# Altium footprint library microbit.PcbLib: 18 footprints (part 1 of 2)
Each footprint in its own frame and in the unit in brackets; x right, y up, seen from the top. Pads: shape width x height; smd on the part's side, far side on the other; paste and mask are expansions set on the pad; w line width, h text height; cw(c..) or ccw(c..) is an arc to the next point about the centre after c.
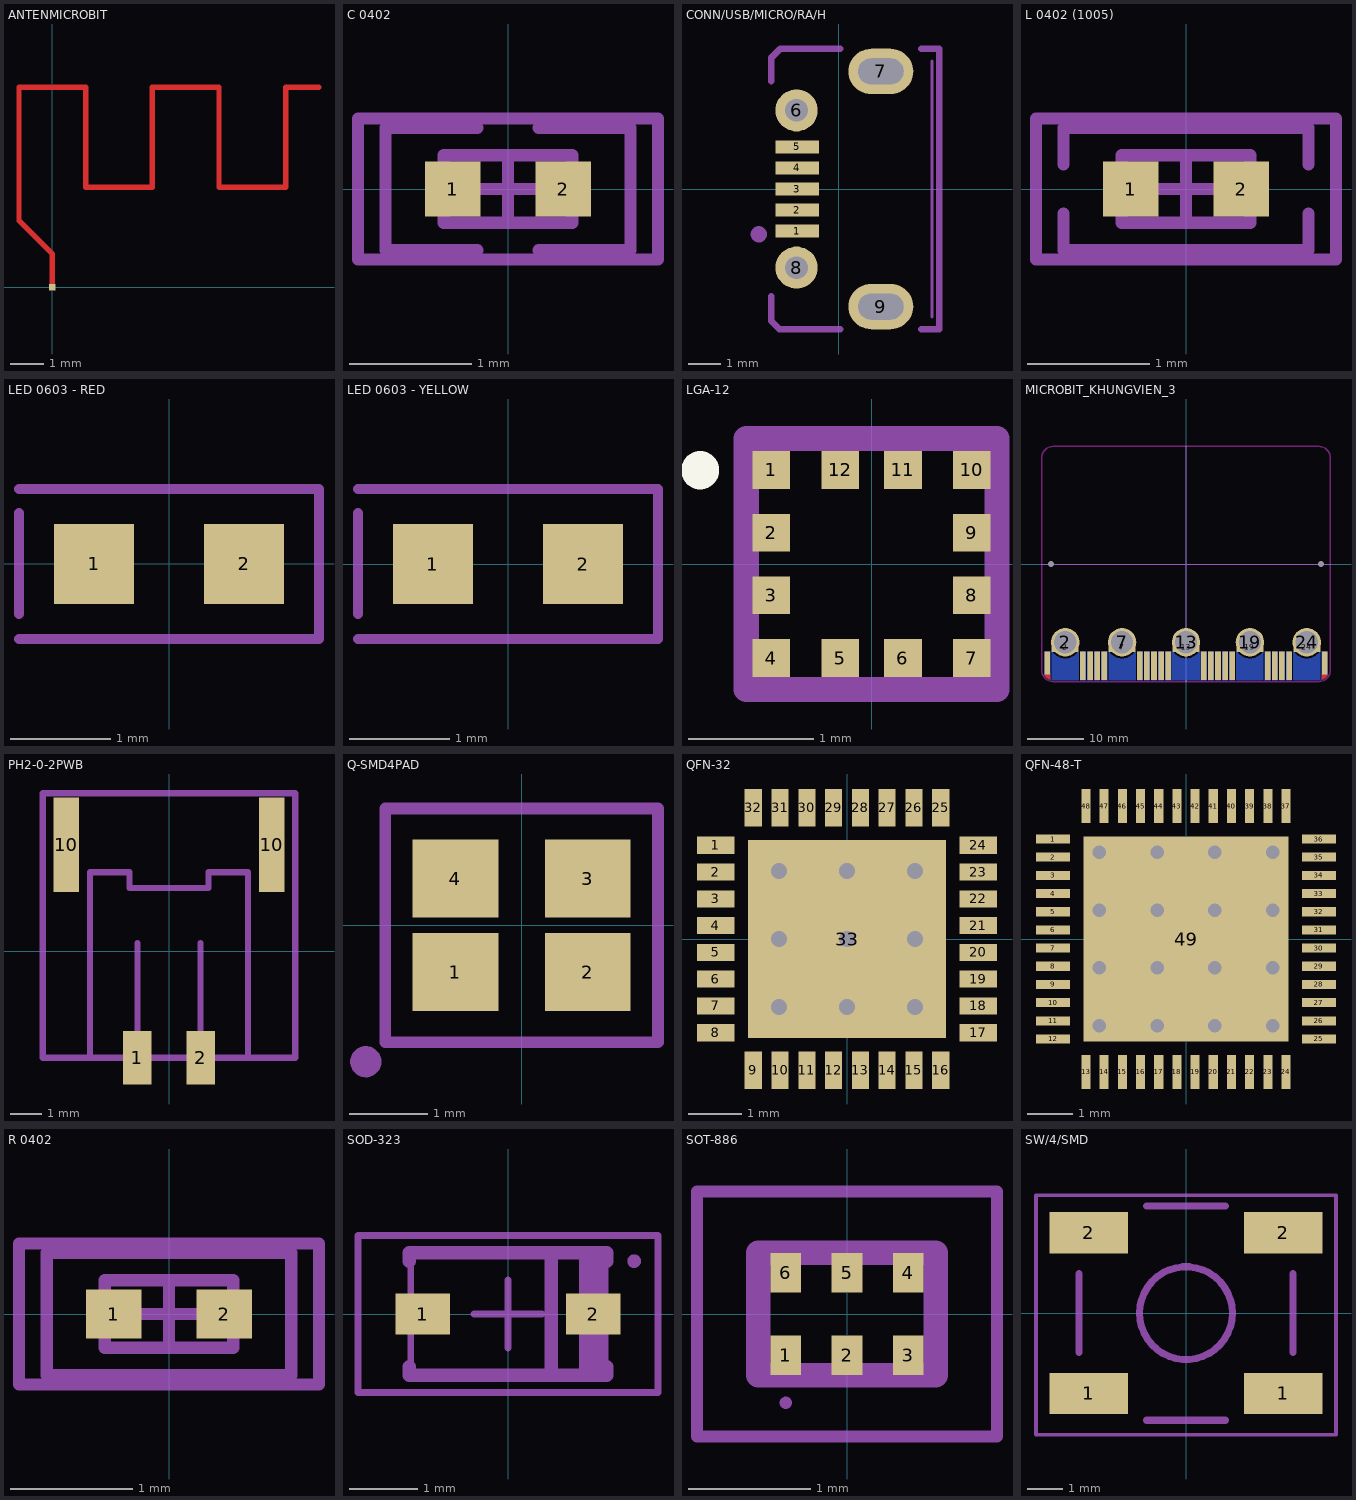
[diagram p0: the footprints below, top view; thin cyan lines are the x and y axes]

## ANTENMICROBIT [mm]
pads (1):
  rect 0.2x0.2 smd: 1(0,0)
Top Layer:
  lines w0.16: 0,0 0,1 -1,2 -1,6 1,6 1,3 3,3 3,6 5,6 5,3 7,3 7,6 8,6

## C 0402 [mm]
pads (2):
  rect 0.452x0.45 smd: 1(-0.451,0) 2(0.451,0)
Mechanical 13:
  lines w0.1: -0.525,-0.275 0.525,-0.275 0.525,0.275 -0.525,0.275 -0.525,-0.275
Mechanical 15:
  lines w0.1: -0.275,0 0.275,0 ; 0,-0.275 0,0.275 ; -1.225,-0.575 1.225,-0.575 1.225,0.575 -1.225,0.575 -1.225,-0.575
Mechanical 16:
  lines w0.1: -0.25,-0.5 -1,-0.5 -1,0.5 -0.25,0.5 ; 0.25,-0.5 1,-0.5 1,0.5 0.25,0.5
3D body "User Library-Chip Resistor2 (1).step": height 0.4, standoff 0, extent -0.5,-0.25 0.5,0.25

## CONN/USB/MICRO/RA/H [mm]
pads (9):
  rect 1.35x0.4 smd: 1(-1.275,-1.3) 2(-1.275,-0.65) 3(-1.275,0) 4(-1.275,0.65) 5(-1.275,1.3)
  round 1.3 hole 0.7: 6(-1.3,2.425) 8(-1.3,-2.425)
  oval 2x1.4 hole 0.8 slot 1.4 at 0 deg: 7(1.3,3.625) 9(1.3,-3.625)
Mechanical 1:
  lines w0.1: 2.875,-3.95 2.875,3.95
  text "PCB Edge" at 3.25,-3.937 h0.25
Mechanical 16:
  circle w0.25: c-2.463,-1.397 r0.125
  lines w0.2: -2.084,-3.3 -2.084,-4.066 -1.832,-4.318 0.05,-4.318 ; -2.084,3.325 -2.084,4.041 -1.807,4.318 0.05,4.318 ; 2.546,-4.318 3.1,-4.318 3.1,4.318 2.546,4.318
3D body "User Library-Micro USB.step": height 2.74, standoff -0.2, extent -1.55,-3.99 3.88,3.99

## L 0402 (1005) [mm]
pads (2):
  rect 0.452x0.45 smd: 1(-0.451,0) 2(0.451,0)
Mechanical 13:
  lines w0.1: -0.525,-0.275 0.525,-0.275 0.525,0.275 -0.525,0.275 -0.525,-0.275
Mechanical 15:
  lines w0.1: -0.275,0 0.275,0 ; 0,-0.275 0,0.275 ; -1.225,-0.575 1.225,-0.575 1.225,0.575 -1.225,0.575 -1.225,-0.575
Mechanical 16:
  lines w0.1: -1,-0.2 -1,-0.5 1,-0.5 1,-0.2 ; -1,0.2 -1,0.5 1,0.5 1,0.2
3D body "User Library-Chip Inductor-L0402 (1005).step": height 0.5, standoff 0, extent -0.5,-0.3 0.5,0.3

## LED 0603 - RED [mm]
pads (2):
  rect 0.8x0.8 smd: 1(-0.75,0) 2(0.75,0)
Mechanical 16:
  lines w0.1: -1.5,-0.75 1.5,-0.75 1.5,0.75 -1.5,0.75 ; -1.5,-0.5 -1.5,0.512
3D body "User Library-led_0603-red.step": height 0.6, standoff 0, extent -0.81,-0.4 0.81,0.4

## LED 0603 - YELLOW [mm]
pads (2):
  rect 0.8x0.8 smd: 1(-0.75,0) 2(0.75,0)
Mechanical 16:
  lines w0.1: -1.5,-0.75 1.5,-0.75 1.5,0.75 -1.5,0.75 ; -1.5,-0.5 -1.5,0.512
3D body "User Library-led_0603-yellow.step": height 0.6, standoff 0, extent -0.81,-0.4 0.81,0.4

## LGA-12 [mm]
pads (12):
  rect 0.3x0.3 smd: 1(-0.8,0.75) 2(-0.8,0.25) 3(-0.8,-0.25) 4(-0.8,-0.75) 5(-0.25,-0.75) 6(0.25,-0.75) 7(0.8,-0.75) 8(0.8,-0.25) 9(0.8,0.25) 10(0.8,0.75) 11(0.25,0.75) 12(-0.25,0.75)
Top Overlay:
  circle w0.254: c-1.368,0.748 r0.025
Mechanical 13:
  lines w0.2: -1,-1 -1,1 1,1 1,-1 -1,-1
3D body "User Library-lga-2x2x0_9.step": height 0.95, standoff 0, extent -1,-1 1,1

## MICROBIT_KHUNGVIEN_3 [mm]
pads (52):
  rect 1x4.08 smd: 1(-24.765,-17.706) 25(24.765,-17.706)
  rect 4.81x1.746 smd: 2(-21.59,-14.873) 7(-11.43,-14.873) 13(0,-14.873) 19(11.43,-14.873) 24(21.59,-14.873)
  round 5.08 hole 4: 2(-21.59,-14) 7(-11.43,-14) 13(0,-14) 19(11.43,-14) 24(21.59,-14)
  rect 1x5.08 smd: 3(-18.415,-18.206) 4(-17.145,-18.206) 5(-15.875,-18.206) 6(-14.605,-18.206) 8(-8.255,-18.206) 9(-6.985,-18.206) 10(-5.715,-18.206) 11(-4.445,-18.206) 12(-3.175,-18.206) 14(3.175,-18.206) 15(4.445,-18.206) 16(5.715,-18.206) 17(6.985,-18.206) 18(8.255,-18.206) 20(14.605,-18.206) 21(15.875,-18.206) 22(17.145,-18.206) 23(18.415,-18.206)
  rect 1x4.08 smd far side: NC(-24.765,-17.706) NC(24.765,-17.706)
  rect 0x0 hole 1 unplated: NC(-24.13,0) NC(24.13,0)
  rect 1x5.08 smd far side: NC(-18.415,-18.206) NC(-17.145,-18.206) NC(-15.875,-18.206) NC(-14.605,-18.206) NC(-8.255,-18.206) NC(-6.985,-18.206) NC(-5.715,-18.206) NC(-4.445,-18.206) NC(-3.175,-18.206) NC(3.175,-18.206) NC(4.445,-18.206) NC(5.715,-18.206) NC(6.985,-18.206) NC(8.255,-18.206) NC(14.605,-18.206) NC(15.875,-18.206) NC(17.145,-18.206) NC(18.415,-18.206)
Top Layer:
  region: 24.265,-20.679 24.525,-20.575 24.75,-20.45 24.975,-20.275 25.15,-20.1 25.265,-19.962 25.265,-19.625 24.265,-19.625
  region: -24.265,-20.679 -24.525,-20.575 -24.75,-20.45 -24.975,-20.275 -25.15,-20.1 -25.265,-19.962 -25.265,-19.625 -24.265,-19.625
  text "GND" at 19.185,-20.746 h2.4
  text "3V" at 9.025,-20.746 h2.4
  text "2" at -2.405,-20.746 h2.4
  text "1" at -13.835,-20.746 h2.4
  text "0" at -23.995,-20.746 h2.4
Bottom Layer:
  region: 24.265,-20.679 24.525,-20.575 24.75,-20.45 24.975,-20.275 25.15,-20.1 25.265,-19.962 25.265,-19.625 24.265,-19.625
  region: -24.265,-20.679 -24.525,-20.575 -24.75,-20.45 -24.975,-20.275 -25.15,-20.1 -25.265,-19.962 -25.265,-19.625 -24.265,-19.625
  region: 19.177,-15.666 19.355,-15.909 19.558,-16.123 19.736,-16.276 19.832,-16.354 20.037,-16.496 20.254,-16.617 20.482,-16.717 20.599,-16.758 20.655,-16.779 20.768,-16.816 20.882,-16.848 20.998,-16.874 21.057,-16.885 21.111,-16.896 21.221,-16.914 21.332,-16.927 21.443,-16.934 21.499,-16.936 21.681,-16.936 21.812,-16.931 22.072,-16.901 22.327,-16.846 22.577,-16.766 22.698,-16.717 22.825,-16.663 23.071,-16.537 23.304,-16.388 23.52,-16.217 23.622,-16.123 23.853,-15.871 24.003,-15.666 24.003,-20.746 19.177,-20.746
  region: 9.017,-15.666 9.195,-15.909 9.398,-16.123 9.576,-16.276 9.672,-16.354 9.877,-16.496 10.094,-16.617 10.322,-16.717 10.439,-16.758 10.495,-16.779 10.608,-16.816 10.722,-16.848 10.838,-16.874 10.897,-16.885 10.951,-16.896 11.061,-16.914 11.172,-16.927 11.283,-16.934 11.339,-16.936 11.521,-16.936 11.652,-16.931 11.912,-16.901 12.167,-16.846 12.417,-16.766 12.538,-16.717 12.665,-16.663 12.911,-16.537 13.144,-16.388 13.36,-16.217 13.462,-16.123 13.693,-15.871 13.843,-15.666 13.843,-20.746 9.017,-20.746
  region: -2.413,-15.666 -2.235,-15.909 -2.032,-16.123 -1.854,-16.276 -1.758,-16.354 -1.553,-16.496 -1.336,-16.617 -1.108,-16.717 -0.991,-16.758 -0.935,-16.779 -0.822,-16.816 -0.708,-16.848 -0.592,-16.874 -0.533,-16.885 -0.479,-16.896 -0.369,-16.914 -0.258,-16.927 -0.147,-16.934 -0.091,-16.936 0.091,-16.936 0.222,-16.931 0.482,-16.901 0.737,-16.846 0.987,-16.766 1.108,-16.717 1.235,-16.663 1.481,-16.537 1.714,-16.388 1.93,-16.217 2.032,-16.123 2.263,-15.871 2.413,-15.666 2.413,-20.746 -2.413,-20.746
  region: -13.843,-15.666 -13.665,-15.909 -13.462,-16.123 -13.284,-16.276 -13.188,-16.354 -12.983,-16.496 -12.766,-16.617 -12.538,-16.717 -12.421,-16.758 -12.365,-16.779 -12.252,-16.816 -12.138,-16.848 -12.022,-16.874 -11.963,-16.885 -11.909,-16.896 -11.799,-16.914 -11.688,-16.927 -11.577,-16.934 -11.521,-16.936 -11.339,-16.936 -11.208,-16.931 -10.948,-16.901 -10.693,-16.846 -10.443,-16.766 -10.322,-16.717 -10.195,-16.663 -9.949,-16.537 -9.716,-16.388 -9.5,-16.217 -9.398,-16.123 -9.167,-15.871 -9.017,-15.666 -9.017,-20.746 -13.843,-20.746
  region: -24.003,-15.666 -23.825,-15.909 -23.622,-16.123 -23.444,-16.276 -23.348,-16.354 -23.143,-16.496 -22.926,-16.617 -22.698,-16.717 -22.581,-16.758 -22.525,-16.779 -22.412,-16.816 -22.298,-16.848 -22.182,-16.874 -22.123,-16.885 -22.069,-16.896 -21.959,-16.914 -21.848,-16.927 -21.737,-16.934 -21.681,-16.936 -21.499,-16.936 -21.368,-16.931 -21.108,-16.901 -20.853,-16.846 -20.603,-16.766 -20.482,-16.717 -20.355,-16.663 -20.109,-16.537 -19.876,-16.388 -19.66,-16.217 -19.558,-16.123 -19.327,-15.871 -19.177,-15.666 -19.177,-20.746 -24.003,-20.746
  lines w0.1: -23.952,-15.682 ccw(c-21.59,-14) -19.228,-15.682 ; -13.792,-15.682 ccw(c-11.43,-14) -9.068,-15.682 ; -2.362,-15.682 ccw(c0,-14) 2.362,-15.682 ; 9.068,-15.682 ccw(c11.43,-14) 13.792,-15.682 ; 19.228,-15.682 ccw(c21.59,-14) 23.952,-15.682
Top Solder:
  region: -24.105,-20.848 -19.075,-20.848 -19.075,-14.015 -24.105,-14.015
  region: -13.945,-20.848 -8.915,-20.848 -8.915,-14.015 -13.945,-14.015
  region: -2.515,-20.848 2.515,-20.848 2.515,-14.015 -2.515,-14.015
  region: 8.915,-20.848 13.945,-20.848 13.945,-14.015 8.915,-14.015
  region: 19.075,-20.848 24.105,-20.848 24.105,-14.015 19.075,-14.015
  region: 24.163,-20.803 24.35,-20.75 24.55,-20.675 24.7,-20.6 24.825,-20.525 24.925,-20.45 25.075,-20.325 25.175,-20.225 25.275,-20.1 25.367,-19.963 25.367,-19.5 24.163,-19.5
  region: -24.163,-20.803 -24.35,-20.75 -24.55,-20.675 -24.7,-20.6 -24.825,-20.525 -24.925,-20.45 -25.075,-20.325 -25.175,-20.225 -25.275,-20.1 -25.367,-19.963 -25.367,-19.5 -24.163,-19.5
Bottom Solder:
  region: -24.105,-20.848 -19.075,-20.848 -19.075,-14.015 -24.105,-14.015
  region: -13.945,-20.848 -8.915,-20.848 -8.915,-14.015 -13.945,-14.015
  region: -2.515,-20.848 2.515,-20.848 2.515,-14.015 -2.515,-14.015
  region: 8.915,-20.848 13.945,-20.848 13.945,-14.015 8.915,-14.015
  region: 19.075,-20.848 24.105,-20.848 24.105,-14.015 19.075,-14.015
  region: 24.163,-20.803 24.35,-20.75 24.55,-20.675 24.7,-20.6 24.825,-20.525 24.925,-20.45 25.075,-20.325 25.175,-20.225 25.275,-20.1 25.367,-19.963 25.367,-19.5 24.163,-19.5
  region: -24.163,-20.803 -24.35,-20.75 -24.55,-20.675 -24.7,-20.6 -24.825,-20.525 -24.925,-20.45 -25.075,-20.325 -25.175,-20.225 -25.275,-20.1 -25.367,-19.963 -25.367,-19.5 -24.163,-19.5
Keep-Out Layer:
  lines w0.25: -25.781,-19 ccw(c-23.781,-19) -23.781,-21 23.781,-21 ccw(c23.781,-19) 25.781,-19 25.781,19 ccw(c23.781,19) 23.781,21 -23.781,21 ccw(c-23.781,19) -25.781,19 -25.781,-19
Mechanical 1:
  lines w0.1: -25.781,0 25.781,0 ; 0,-21 0,21

## PH2-0-2PWB [mm]
pads (4):
  rect 0.9x1.7 smd: 1(-1,-3.375) 2(1,-3.375)
  rect 0.8x3 smd: 10(-3.25,3.375) 10(3.25,3.375)
Mechanical 16:
  lines w0.2: -2.5,-3.375 -2.5,2.5 -1.25,2.5 -1.25,2 1.25,2 1.25,2.5 2.5,2.5 2.5,-3.375 ; -1,-3.375 -1,0.25 ; 1,-3.375 1,0.25 ; 1,0.25 1,0.25 ; -4,-3.375 -4,5 4,5 4,-3.375 -4,-3.375
3D body "S2B-PH-SM4-TB.stp": height 4.8, standoff 0, extent -3.95,-3.85 3.95,4.75

## Q-SMD4PAD [mm]
pads (4):
  rect 1.1x1 smd: 1(-0.85,-0.6) 2(0.85,-0.6) 3(0.85,0.6) 4(-0.85,0.6)
Mechanical 16:
  circle w0.2: c-2,-1.75 r0.1
  lines w0.15: -1.75,-1.5 -1.75,1.5 1.75,1.5 1.75,-1.5 -1.75,-1.5
3D body "User Library-CRY_2520.step": height 0.55, standoff 0, extent -1.25,-1 1.25,1

## QFN-32 [mm]
pads (33):
  rect 0.7x0.32 smd: 1(-2.45,1.75) 2(-2.45,1.25) 3(-2.45,0.75) 4(-2.45,0.25) 5(-2.45,-0.25) 6(-2.45,-0.75) 7(-2.45,-1.25) 8(-2.45,-1.75) 17(2.45,-1.75) 18(2.45,-1.25) 19(2.45,-0.75) 20(2.45,-0.25) 21(2.45,0.25) 22(2.45,0.75) 23(2.45,1.25) 24(2.45,1.75)
  rect 0.32x0.7 smd: 9(-1.75,-2.45) 10(-1.25,-2.45) 11(-0.75,-2.45) 12(-0.25,-2.45) 13(0.25,-2.45) 14(0.75,-2.45) 15(1.25,-2.45) 16(1.75,-2.45) 25(1.75,2.45) 26(1.25,2.45) 27(0.75,2.45) 28(0.25,2.45) 29(-0.25,2.45) 30(-0.75,2.45) 31(-1.25,2.45) 32(-1.75,2.45)
  rect 3.7x3.7 smd: 33(0,0)
via 1.27,-1.27 diameter 0.6 hole 0.3
via 0,-1.27 diameter 0.6 hole 0.3
via -1.27,-1.27 diameter 0.6 hole 0.3
via -1.27,0 diameter 0.6 hole 0.3
via -1.27,1.27 diameter 0.6 hole 0.3
via 0,1.27 diameter 0.6 hole 0.3
via 1.27,1.27 diameter 0.6 hole 0.3
via 1.27,0 diameter 0.6 hole 0.3
via 0,0 diameter 0.6 hole 0.3
3D body "User Library-QFN32-1.step": height 0.9, standoff -0.03, extent -2.5,-2.5 2.501,2.5

## QFN-48-T [mm]
pads (49):
  rect 0.75x0.2 smd: 1(-2.925,2.2) 2(-2.925,1.8) 3(-2.925,1.4) 4(-2.925,1) 5(-2.925,0.6) 6(-2.925,0.2) 7(-2.925,-0.2) 8(-2.925,-0.6) 9(-2.925,-1) 10(-2.925,-1.4) 11(-2.925,-1.8) 12(-2.925,-2.2) 25(2.925,-2.2) 26(2.925,-1.8) 27(2.925,-1.4) 28(2.925,-1) 29(2.925,-0.6) 30(2.925,-0.2) 31(2.925,0.2) 32(2.925,0.6) 33(2.925,1) 34(2.925,1.4) 35(2.925,1.8) 36(2.925,2.2)
  rect 0.2x0.75 smd: 13(-2.2,-2.925) 14(-1.8,-2.925) 15(-1.4,-2.925) 16(-1,-2.925) 17(-0.6,-2.925) 18(-0.2,-2.925) 19(0.2,-2.925) 20(0.6,-2.925) 21(1,-2.925) 22(1.4,-2.925) 23(1.8,-2.925) 24(2.2,-2.925) 37(2.2,2.925) 38(1.8,2.925) 39(1.4,2.925) 40(1,2.925) 41(0.6,2.925) 42(0.2,2.925) 43(-0.2,2.925) 44(-0.6,2.925) 45(-1,2.925) 46(-1.4,2.925) 47(-1.8,2.925) 48(-2.2,2.925)
  rect 4.5x4.5 smd: 49(0,0)
via 0.635,0.635 diameter 0.6 hole 0.3
via -0.635,0.635 diameter 0.6 hole 0.3
via 1.905,0.635 diameter 0.6 hole 0.3
via -1.905,0.635 diameter 0.6 hole 0.3
via 1.905,-0.635 diameter 0.6 hole 0.3
via -1.905,-0.635 diameter 0.6 hole 0.3
via 0.635,-0.635 diameter 0.6 hole 0.3
via -0.635,-0.635 diameter 0.6 hole 0.3
via 1.905,1.905 diameter 0.6 hole 0.3
via -1.905,1.905 diameter 0.6 hole 0.3
via 0.635,1.905 diameter 0.6 hole 0.3
via -0.635,1.905 diameter 0.6 hole 0.3
via 1.905,-1.905 diameter 0.6 hole 0.3
via -1.905,-1.905 diameter 0.6 hole 0.3
via 0.635,-1.905 diameter 0.6 hole 0.3
via -0.635,-1.905 diameter 0.6 hole 0.3
3D body "User Library-QFN48.step": height 0.85, standoff -0.02, extent -3.001,-3.006 3.039,3.034

## R 0402 [mm]
pads (2):
  rect 0.452x0.398 smd: 1(-0.451,0) 2(0.451,0)
Mechanical 13:
  lines w0.1: -0.525,-0.275 0.525,-0.275 0.525,0.275 -0.525,0.275 -0.525,-0.275
Mechanical 15:
  lines w0.1: -0.275,0 0.275,0 ; 0,-0.275 0,0.275 ; -1.225,-0.575 1.225,-0.575 1.225,0.575 -1.225,0.575 -1.225,-0.575
Mechanical 16:
  lines w0.102: -1,-0.5 1,-0.5 1,0.5 -1,0.5 -1,-0.5
3D body "User Library-Chip Resistor2 (1).step": height 0.4, standoff 0, extent -0.5,-0.25 0.5,0.25

## SOD-323 [mm]
pads (2):
  rect 0.8x0.6 smd: 1(-1.25,0) 2(1.25,0)
Mechanical 13:
  rectangle: 1.042,-0.85 1.425,0.85
  lines w0.1: -1.425,-0.85 1.425,-0.85 1.425,0.85 -1.425,0.85 -1.425,-0.85
Mechanical 15:
  lines w0.1: -0.5,0 0.5,0 ; 0,-0.5 0,0.5 ; -2.2,-1.15 2.2,-1.15 2.2,1.15 -2.2,1.15 -2.2,-1.15
Mechanical 16:
  circle w0.1: c1.85,0.775 r0.05
  lines w0.2: -1.45,-0.775 -1.45,-0.9 1.45,-0.9 1.45,-0.775 ; -1.45,0.775 -1.45,0.9 1.45,0.9 1.45,0.775 ; 0.635,-0.889 0.635,0.889
3D body "User Library-SOD323-1.step": height 1.1, standoff 0, extent -1.3,-0.675 1.3,0.675

## SOT-886 [mm]
pads (6):
  rect 0.25x0.325 smd: 1(-0.5,-0.337) 2(0,-0.337) 3(0.5,-0.337) 4(0.5,0.337) 5(0,0.337) 6(-0.5,0.337)
Mechanical 13:
  lines w0.2: -0.725,-0.5 0.725,-0.5 0.725,0.5 -0.725,0.5 -0.725,-0.5
Mechanical 15:
  lines w0.1: -1.225,-1 1.225,-1 1.225,1 -1.225,1 -1.225,-1
Mechanical 16:
  lines w0.05: -0.5,-0.75 cw(c-0.5,-0.725) -0.5,-0.7 cw(c-0.5,-0.725) -0.5,-0.75
  lines w0.1: -0.725,-0.05 -0.725,0 -0.725,0.05 ; 0.725,-0.05 0.725,0 0.725,0.05
3D body "User Library-SOT886 (XSON6).step": height 0.46, standoff -0.04, extent -0.75,-0.525 0.75,0.525

## SW/4/SMD [mm]
pads (4):
  rect 2.2x1.15 smd: 1(-2.72,-2.25) 1(2.72,-2.25) 2(-2.72,2.25) 2(2.72,2.25)
Mechanical 16:
  circle w0.2: c0,0 r1.3
  lines w0.1: -4.2,-3.4 -4.2,3.3 4.2,3.3 4.2,-3.4 -4.2,-3.4
  lines w0.2: -3,-1.1 -3,1.1 ; -1.1,-3 1.1,-3 ; -1.1,3 1.1,3 ; 3,-1.1 3,1.1
3D body "TL3301AFxxxxJ.stp": height 5.32, standoff 0.02, extent -3.3,-3 3.3,3